# EAGLE library part 750318701 (library WE-FLYTI)
WE-FLYTI Flyback Transformers Characteristics Low leakage inductance Multiple package sizes Wide range input voltages Different output voltages available Isolation voltage: up to 3000VAC Lead free and RoHS compliant Operating temp: -40°C to 125°C Applications Industrial and medical power supplies Auxiliary power supplies Home automation Isolated DC/DC power supplies <https://www.we-online.com/components/media/o795300v209%20FAMILY-MID-FLYTI.jpg> Details see: www.we-online.com/en/components/products/WE-FLYTI <www.we-online.com/catalog/WE-FLYTI/?utm_source=eagle_model&utm_medium=description_link&utm_campaign=eisos_eagle> Created by Ella Wu 2024-07-03 2024 (C) Wurth Elektronik
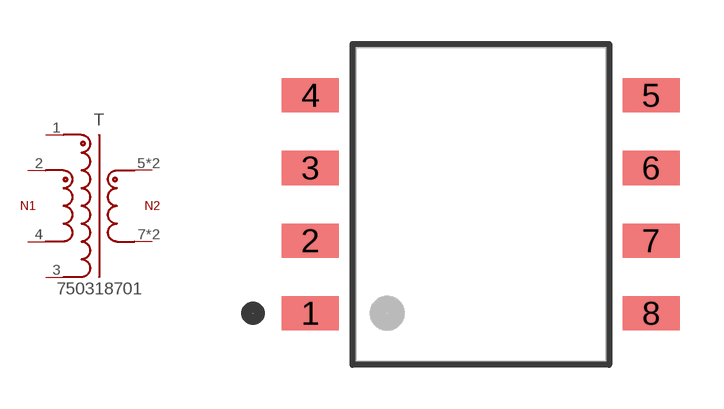
[diagram p9: symbol with the pads of WE-FLYTI_EP7_4390; footprint WE-FLYTI_EP7_4390]

Designator prefix T

## 750318701 (DATASHEET-URL: https://www.we-online.com/redexpert/spec/750318701?ae; IOUT1: 1000mA; ISAT: 6.25A; L: 8.6uH; LS: 500nH; MOUNT: SMT; N: 1:1; PART-NUMBER: 750318701; SIZE: EP7; VALUE: 750318701; VIN: 12 - 42 V (DC); VOUT1: 12V; VT: 1500V(AC))  [WE-FLYTI_EP7_4390]
1  1  pas
2  2  pas
3  3  pas
4  4  pas
5  5+6  pas
6  5+6  pas
7  7+8  pas
8  7+8  pas

## Footprint WE-FLYTI_EP7_4390 (pad centres in mm)
WE-FLYTI Flyback Transformers Size: EP7,SMT,8pins Bobbin: 070-4390
smd 1.96 x 1.17: 1 -5.84,-3.735; 2 -5.84,-1.249; 3 -5.84,1.245; 4 -5.84,3.735; 5 5.84,3.735; 6 5.84,1.245; 7 5.84,-1.249; 8 5.84,-3.735